# Altium footprint library HVSSOP-8.PcbLib: 1 footprints
Each footprint in its own frame and in the unit in brackets; x right, y up, seen from the top. Pads: shape width x height; smd on the part's side, far side on the other; paste and mask are expansions set on the pad; w line width, h text height; cw(c..) or ccw(c..) is an arc to the next point about the centre after c.
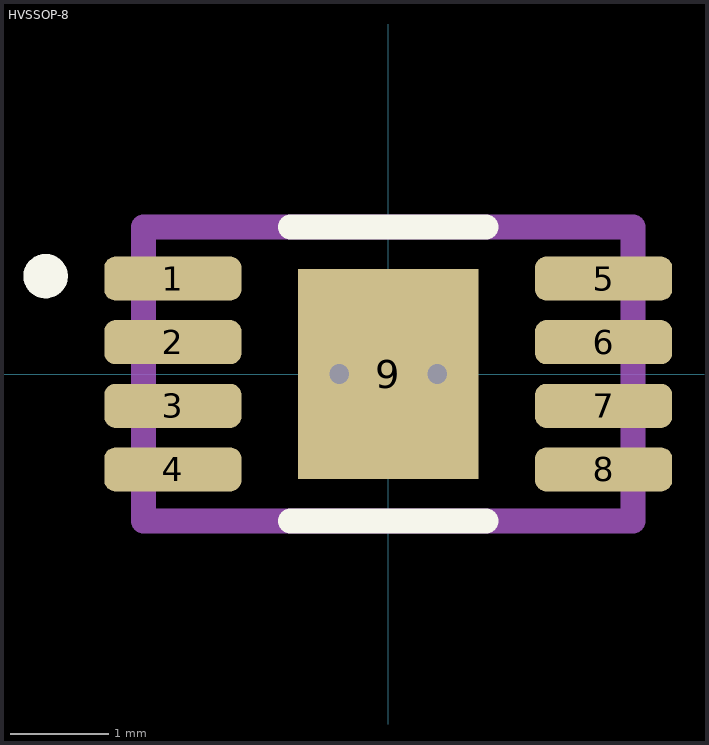
[diagram p0: the footprint, top view; thin cyan lines are the x and y axes]

## HVSSOP-8 [mm]
height 1.1
pads (9):
  rrect50% 1.4x0.45 smd mask+0.051: 1(-2.2,0.975) 2(-2.2,0.325) 3(-2.2,-0.325) 4(-2.2,-0.975) 5(2.2,0.975) 6(2.2,0.325) 7(2.2,-0.325) 8(2.2,-0.975)
  rect 1.846x2.15 smd mask+0: 9(0,0)
via 0.5,0 diameter 0.5 hole 0.2
via -0.5,0 diameter 0.5 hole 0.2
Top Overlay:
  circle w0.254: c-3.5,1 r0.1
  lines w0.254: -1,-1.5 1,-1.5 ; -1,1.5 1,1.5
Mechanical 13:
  lines w0.254: -2.5,-1.5 -2.5,1.5 2.5,1.5 2.5,-1.5 -2.5,-1.5
Mechanical 15:
  lines w0.254: -0.325,0 0,0 ; 0,-0.325 0,0 ; 0,0.325 0,0 ; 0.325,0 0,0
3D body "8-HVSSOP.STEP": height 1.1, standoff 0, extent -2.45,-1.5 2.45,1.5